# Altium footprint library Connectors.PcbLib: 80 footprints (part 5 of 5)
Each footprint in its own frame and in the unit in brackets; x right, y up, seen from the top. Pads: shape width x height; smd on the part's side, far side on the other; paste and mask are expansions set on the pad; w line width, h text height; cw(c..) or ccw(c..) is an arc to the next point about the centre after c.
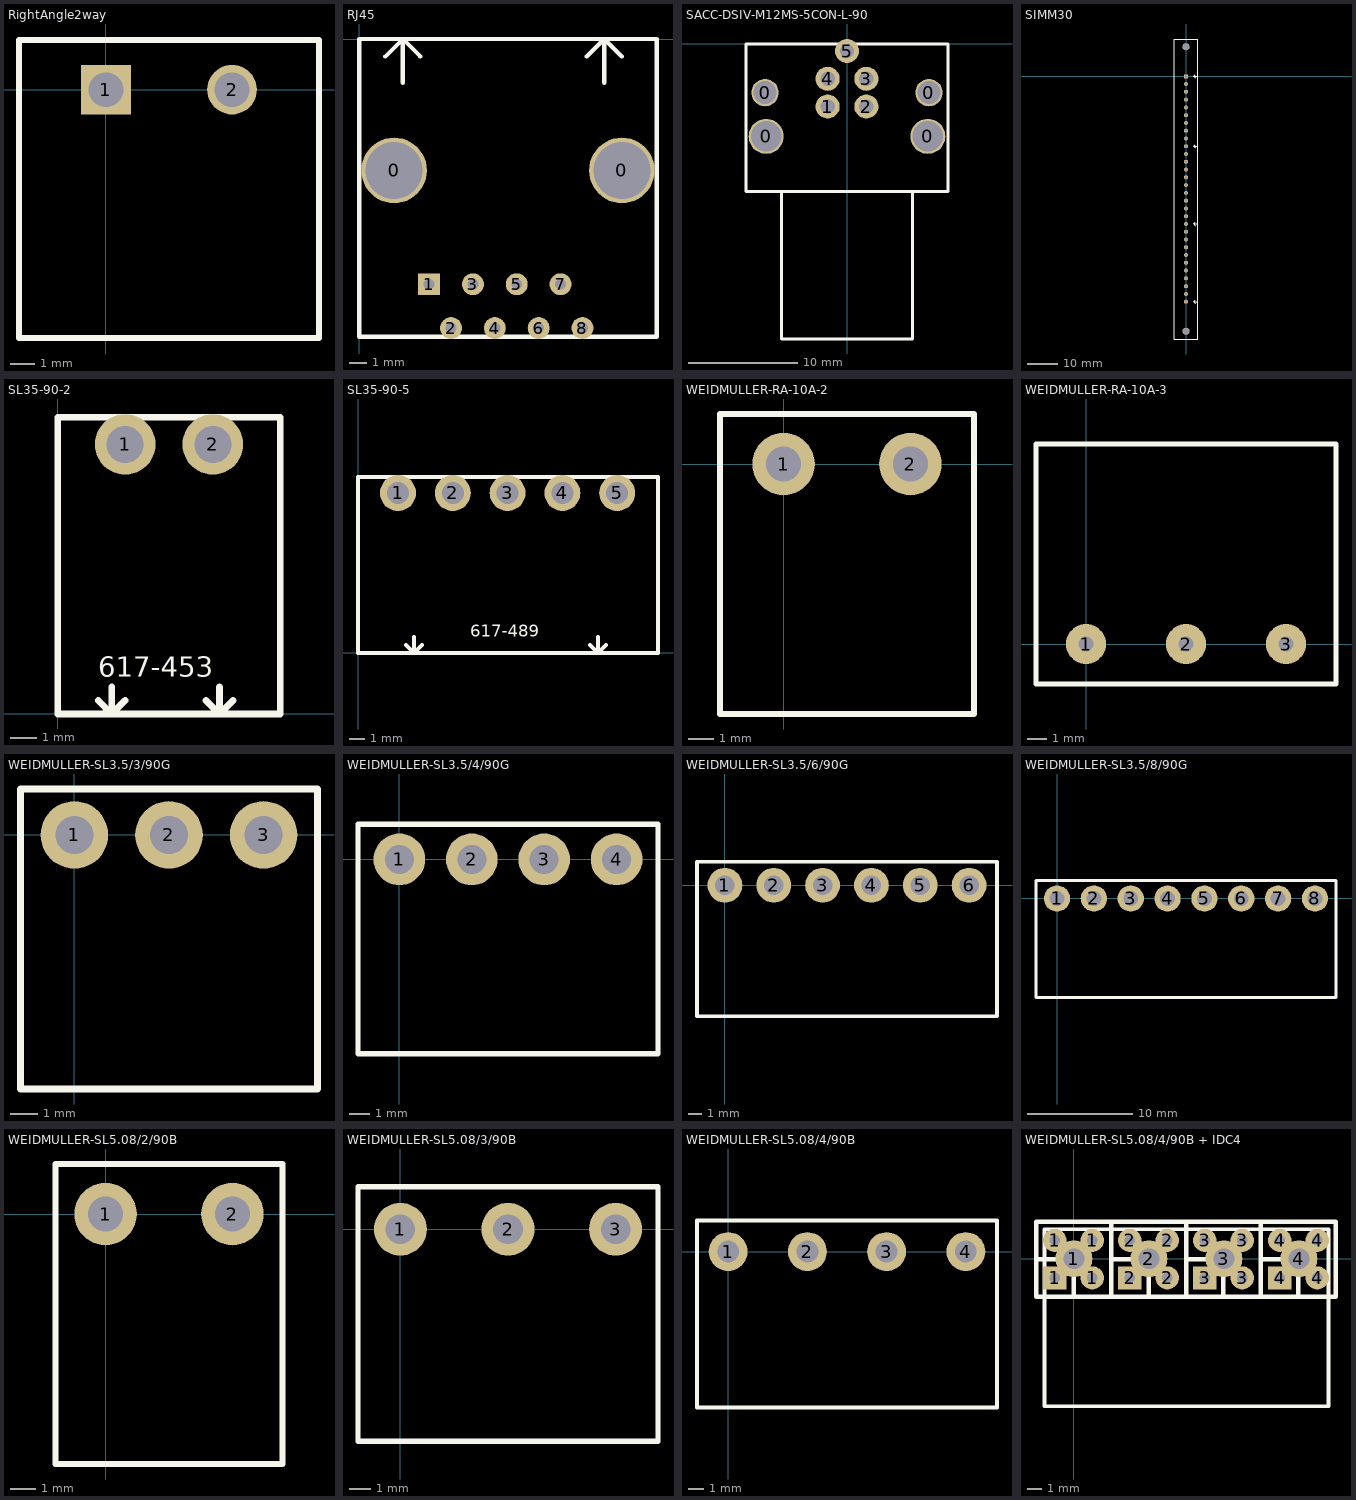
[diagram p4: the footprints below, top view; thin cyan lines are the x and y axes]

## RightAngle2way [mm]
pads (2):
  rect 2x2 hole 1.4: 1(0,0)
  round 2 hole 1.4: 2(5.08,0)
TopOverlay:
  lines w0.254: -3.5,-10 8.58,-10 8.58,2 -3.5,2 -3.5,-10

## RJ45 [mil]
pads (10):
  round 150 hole 130: 0(80,-300) 0(600,-300)
  rect 50x50 hole 25: 1(160,-560)
  round 50 hole 25: 2(210,-660) 3(260,-560) 4(310,-660) 5(360,-560) 6(410,-660) 7(460,-560) 8(510,-660)
TopOverlay:
  lines w10: 60,-40 100,0 ; 100,-100 100,0 ; 140,-40 100,0 ; 520,-40 560,0 ; 560,-100 560,0 ; 600,-40 560,0 ; 0,-680 680,-680 680,0 0,0 0,-680

## SACC-DSIV-M12MS-5CON-L-90 [mm]
height 19.5
pads (9):
  round 2.5 hole 2.1: 0(-7.5,-4.46) 0(7.5,-4.46)
  round 3.2 hole 2.8: 0(-7.4,-8.46) 0(7.4,-8.46)
  round 2.2 hole 1.3: 1(-1.77,-5.73) 2(1.77,-5.73) 3(1.77,-3.19) 4(-1.77,-3.19) 5(0,-0.65)
TopOverlay:
  lines w0.254: -6,-13.5 -6,-27 6,-27 6,-13.5 ; 9.25,-0.05 9.25,-13.5 -9.25,-13.5 -9.25,0 9.25,0

## SIMM30 [mm]
pads (32):
  round 2.286 hole 2.007: 0(0,-83.312) 0(0,9.652)
  rect 1.3x1.3 hole 1: 1(0,0)
  round 1.3 hole 1: 2(0,-2.54) 3(0,-5.08) 4(0,-7.62) 5(0,-10.16) 6(0,-12.7) 7(0,-15.24) 8(0,-17.78) 9(0,-20.32) 10(0,-22.86) 11(0,-25.4) 12(0,-27.94) 13(0,-30.48) 14(0,-33.02) 15(0,-35.56) 16(0,-38.1) 17(0,-40.64) 18(0,-43.18) 19(0,-45.72) 20(0,-48.26) 21(0,-50.8) 22(0,-53.34) 23(0,-55.88) 24(0,-58.42) 25(0,-60.96) 26(0,-63.5) 27(0,-66.04) 28(0,-68.58) 29(0,-71.12) 30(0,-73.66)
TopOverlay:
  lines w0.2: -3.81,-85.852 -3.81,12.192 3.81,12.192 3.81,-85.852
  lines w0.254: -3.81,-85.852 3.81,-85.852 ; 3.048,-74.168 2.54,-73.66 ; 3.048,-73.152 2.54,-73.66 ; 3.048,-48.768 2.54,-48.26 ; 3.048,-47.752 2.54,-48.26 ; 3.048,-23.368 2.54,-22.86 ; 3.048,-22.352 2.54,-22.86 ; 3.048,-0.508 2.54,0 ; 3.048,0.508 2.54,0 ; 3.556,-73.66 2.54,-73.66 ; 3.556,-48.26 2.54,-48.26 ; 3.556,-22.86 2.54,-22.86 ; 3.556,0 2.54,0

## SL35-90-2 [mil]
pads (2):
  round 90 hole 55: 1(100,400) 2(230,400)
TopOverlay:
  lines w10: 60,20 80,0 ; 80,40 80,0 ; 100,20 80,0 ; 220,20 240,0 ; 240,40 240,0 ; 260,20 240,0 ; 0,0 0,440 330,440 330,0 0,0
  text "617-453" at 60,55 h30

## SL35-90-5 [mil]
pads (5):
  round 90 hole 55: 1(100,400) 2(237,400) 3(374,400) 4(511,400) 5(648,400)
TopOverlay:
  lines w10: 120,20 140,0 ; 140,40 140,0 ; 160,20 140,0 ; 580,20 600,0 ; 600,40 600,0 ; 620,20 600,0 ; 0,0 750,0 750,440 0,440 0,0
  text "617-489" at 280,40 h30

## WEIDMULLER-RA-10A-2 [mm]
pads (2):
  round 2.5 hole 1.4: 1(0,0) 2(5.08,0)
TopOverlay:
  lines w0.254: -2.54,-10 -2.54,2 7.62,2 7.62,-10 -2.54,-10

## WEIDMULLER-RA-10A-3 [mil]
pads (3):
  round 80 hole 30: 1(0,0) 2(200,0) 3(400,0)
TopOverlay:
  lines w10: -100,-80 -100,400 500,400 500,-80 -100,-80

## WEIDMULLER-SL3.5/3/90G [mm]
pads (3):
  round 2.5 hole 1.4: 1(0,0) 2(3.5,0) 3(7,0)
TopOverlay:
  lines w0.254: -2,-9.4 -2,1.7 9,1.7 9,-9.4 -2,-9.4

## WEIDMULLER-SL3.5/4/90G [mm]
height 5
pads (4):
  round 2.5 hole 1.4: 1(0,0) 2(3.5,0) 3(7,0) 4(10.5,0)
TopOverlay:
  lines w0.254: -2,-9.4 12.5,-9.4 12.5,1.7 -2,1.7 -2,-9.4

## WEIDMULLER-SL3.5/6/90G [mm]
pads (6):
  round 2.5 hole 1.4: 1(0,0) 2(3.5,0) 3(7,0) 4(10.5,0) 5(14,0) 6(17.5,0)
TopOverlay:
  lines w0.254: -2,-9.4 -2,1.7 19.5,1.7 19.5,-9.4 -2,-9.4

## WEIDMULLER-SL3.5/8/90G [mm]
pads (8):
  round 2.5 hole 1.4: 1(0,0) 2(3.5,0) 3(7,0) 4(10.5,0) 5(14,0) 6(17.5,0) 7(21,0) 8(24.5,0)
TopOverlay:
  lines w0.254: -2,-9.4 26.5,-9.4 26.5,1.7 -2,1.7 -2,-9.4

## WEIDMULLER-SL5.08/2/90B [mm]
pads (2):
  round 2.5 hole 1.4: 1(0,0) 2(5.08,0)
TopOverlay:
  lines w0.254: -2,-10 -2,2 7.08,2 7.08,-10 -2,-10

## WEIDMULLER-SL5.08/3/90B [mm]
pads (3):
  round 2.5 hole 1.4: 1(0,0) 2(5.08,0) 3(10.16,0)
TopOverlay:
  lines w0.254: -2,-10 12.16,-10 12.16,2 -2,2 -2,-10

## WEIDMULLER-SL5.08/4/90B [mm]
pads (4):
  round 2.5 hole 1.4: 1(0,0) 2(5.08,0) 3(10.16,0) 4(15.24,0)
TopOverlay:
  lines w0.254: -2,-10 17.24,-10 17.24,2 -2,2 -2,-10

## WEIDMULLER-SL5.08/4/90B + IDC4 [mil]
pads (20):
  rect 62x62 hole 28: 1(-51.18,-51.18) 2(148.82,-51.18) 3(348.82,-51.18) 4(548.82,-51.18)
  round 62 hole 28: 1(-51.18,48.82) 1(48.82,-51.18) 1(48.82,48.82) 2(148.82,48.82) 2(248.82,-51.18) 2(248.82,48.82) 3(348.82,48.82) 3(448.82,-51.18) 3(448.82,48.82) 4(548.82,48.82) 4(648.82,-51.18) 4(648.82,48.82)
  round 98.43 hole 55.12: 1(0,0) 2(200,0) 3(400,0) 4(600,0)
TopOverlay:
  lines w10: -78.74,-393.7 -78.74,78.74 678.74,78.74 678.74,-393.7 -78.74,-393.7
  lines w12: -101.18,-1.18 -1.18,-1.18 -1.18,-101.18 ; 98.82,-1.18 198.82,-1.18 198.82,-101.18 ; 298.82,-1.18 398.82,-1.18 398.82,-101.18 ; 498.82,-1.18 598.82,-1.18 598.82,-101.18 ; 98.82,-101.18 98.82,98.82 ; 98.82,-101.18 298.82,-101.18 ; 98.82,-101.18 -101.18,-101.18 -101.18,98.82 98.82,98.82 ; 98.82,-101.18 98.82,98.82 ; 98.82,98.82 298.82,98.82 ; 298.82,-101.18 298.82,98.82 ; 298.82,-101.18 498.82,-101.18 ; 298.82,-101.18 298.82,98.82 ; 298.82,98.82 498.82,98.82 ; 498.82,-101.18 498.82,98.82 ; 498.82,-101.18 698.82,-101.18 698.82,98.82 498.82,98.82 ; 498.82,-101.18 498.82,98.82